# EAGLE library part ADIS16350 (library Gyros)
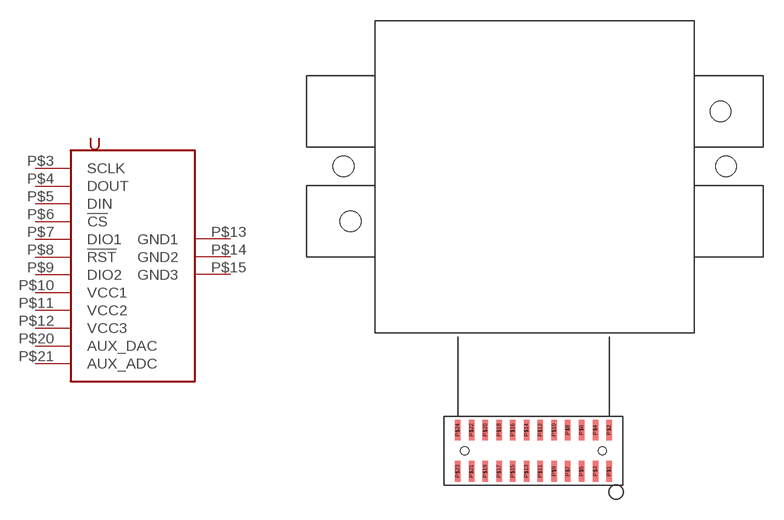
[diagram p0: symbol with the pads of ADIS16350; footprint ADIS16350]

Designator prefix -

## ADIS16350  [ADIS16350]
P$3  SCLK
P$4  DOUT
P$5  DIN
P$6  !CS
P$7  DIO1
P$8  !RST
P$9  DIO2
P$10  VCC1  pwr
P$11  VCC2  pwr
P$12  VCC3  pwr
P$13  GND1  pwr
P$14  GND2  pwr
P$15  GND3  pwr
P$20  AUX_DAC
P$21  AUX_ADC

## Footprint ADIS16350 (pad centres in mm)
smd 0.4 x 1.5: P$1 17,-32.77; P$2 17,-29.77; P$3 16,-32.77; P$4 16,-29.77; P$5 15,-32.77; P$6 15,-29.77; P$7 14,-32.77; P$8 14,-29.77; P$9 13,-32.77; P$10 13,-29.77; P$11 12,-32.77; P$12 12,-29.77; P$13 11,-32.77; P$14 11,-29.77; P$15 10,-32.77; P$16 10,-29.77; P$17 9,-32.77; P$18 9,-29.77; P$19 8,-32.77; P$20 8,-29.77; P$21 7,-32.77; P$22 7,-29.77; P$23 6,-32.77; P$24 6,-29.77
hole 1.5 at -2.3,-10.6
hole 1.5 at 25.5,-10.6
hole 1.5 at -1.8,-14.6
hole 1.5 at 25.1,-6.6
hole 0.6 at 6.5,-31.27
hole 0.6 at 16.5,-31.27